# EAGLE library part DS390X (library 4ms-main-parts)
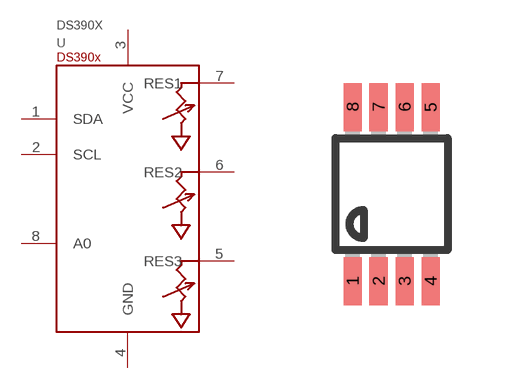
[diagram p28: symbol with the pads of UMAX8; footprint UMAX8]

Designator prefix U

## DS390X-4  [UMAX8]
1  SDA
2  SCL
3  VCC  pwr
4  GND  pwr
5  RES3
6  RES2
7  RES1
8  A0  in

## Footprint UMAX8 (pad centres in mm)
micro MAX Package
smd 0.45 x 1.2: 1 -0.975,-2.175; 2 -0.325,-2.175; 3 0.325,-2.175; 4 0.975,-2.175; 5 0.975,2.175; 6 0.325,2.175; 7 -0.325,2.175; 8 -0.975,2.175